# EAGLE library part AD5450 (library analog-devices)
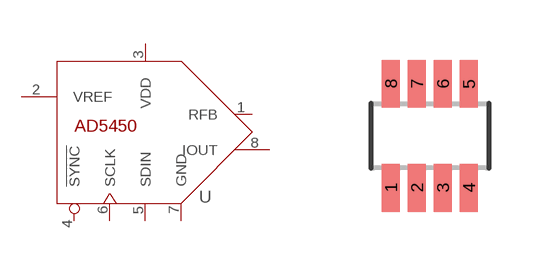
[diagram p65: symbol with the pads of SOT23-8; footprint SOT23-8]

Designator prefix U

## AD5450" (DIGIKEY: AD5451YUJZ-REEL7CT-ND)  [SOT23-8]
1  RFB
2  VREF
3  VDD
4  !SYNC
5  SDIN
6  SCLK
7  GND
8  IOUT

## Footprint SOT23-8 (pad centres in mm)
SOT-23 - DCN 0.65 mm pitch
smd 0.45 x 1.2: 1 -0.975,-1.3; 2 -0.325,-1.3; 3 0.325,-1.3; 4 0.975,-1.3; 5 0.975,1.3; 6 0.325,1.3; 7 -0.325,1.3; 8 -0.975,1.3